# Altium footprint library WE-SHC.PcbLib: 139 footprints (part 2 of 10)
Each footprint in its own frame and in the unit in brackets; x right, y up, seen from the top. Pads: shape width x height; smd on the part's side, far side on the other; paste and mask are expansions set on the pad; w line width, h text height; cw(c..) or ccw(c..) is an arc to the next point about the centre after c.
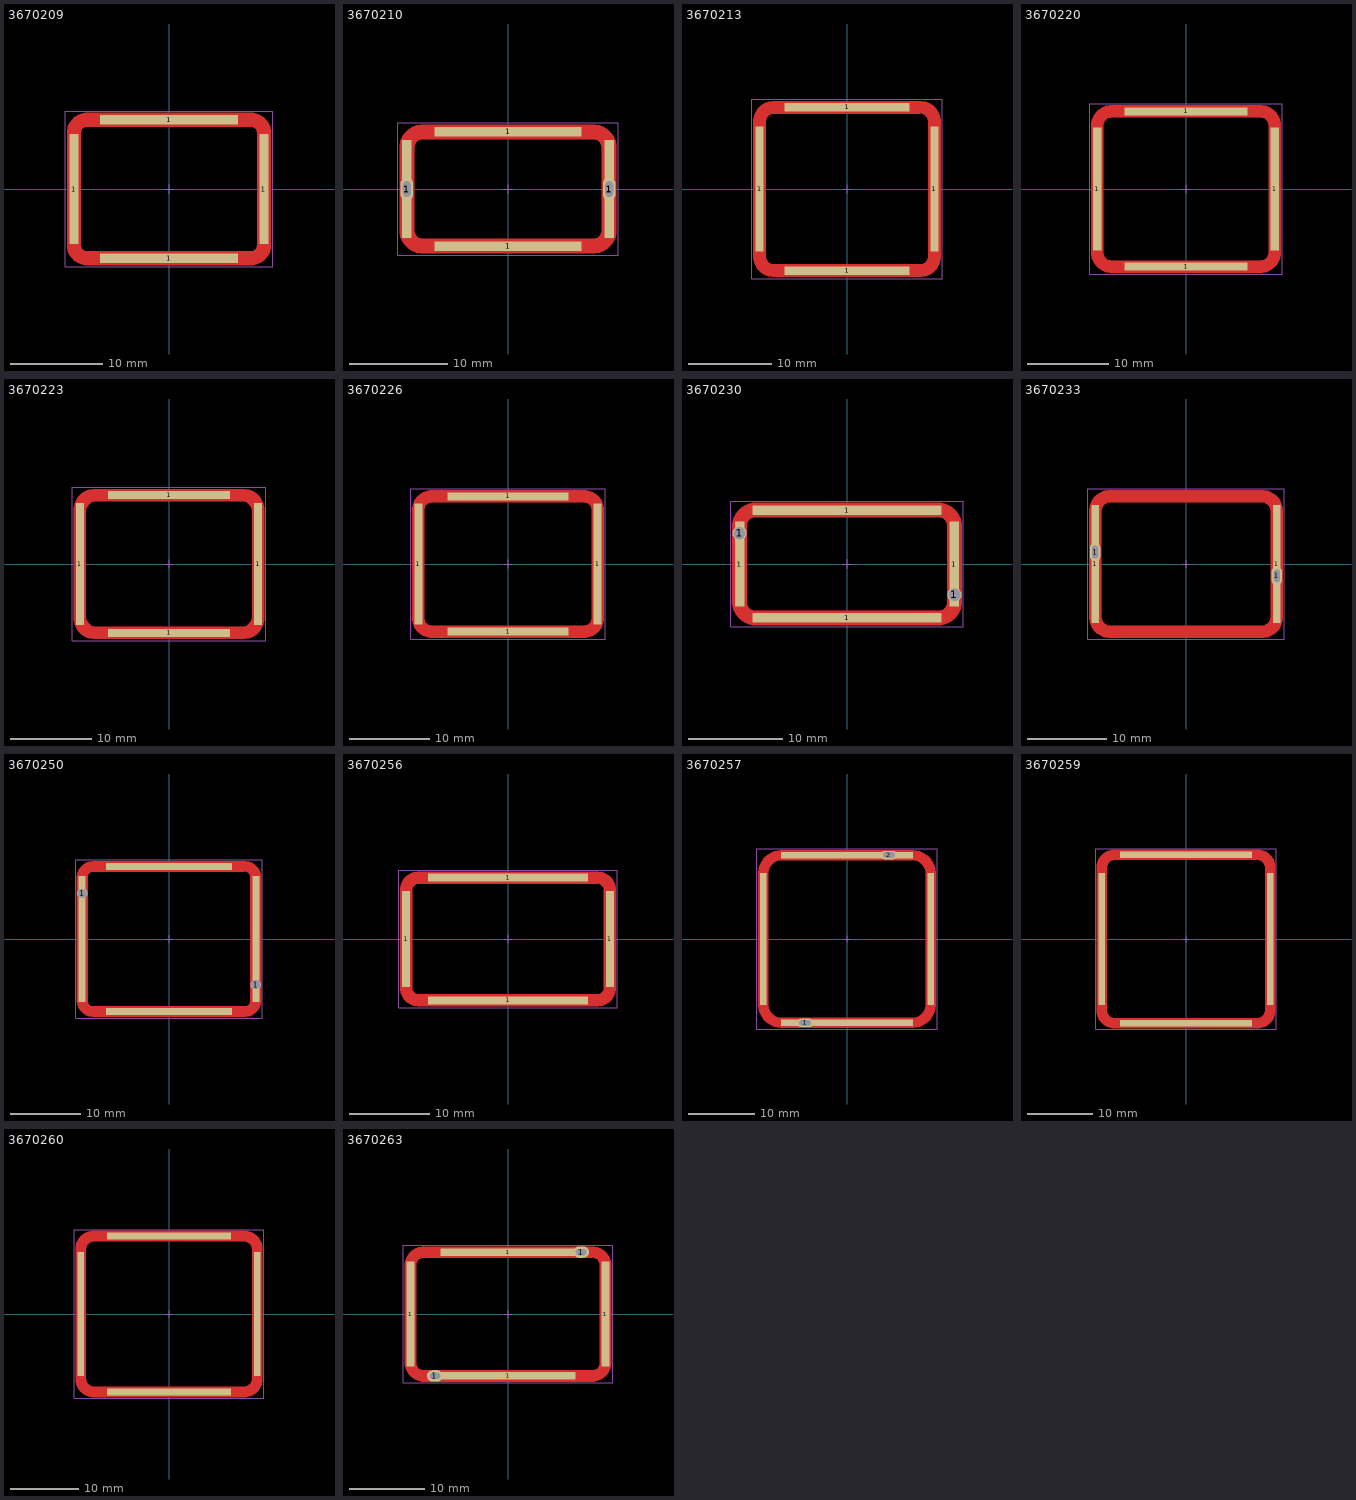
[diagram p1: the footprints below, top view; thin cyan lines are the x and y axes]

## 3670209 [mm] "Shielding Cabinet, SMT Frame Seamless, 20.9x15.3x1.7mm"
height 1.7
pads (4):
  rect 1x12 smd paste-2539.97 mask-2222: 1(-10.35,0) 1(10.35,0)
  rect 15x1 smd paste-2539.97 mask-2222: 1(0,-7.55) 1(0,7.55)
Top Layer:
  region: -11.1,-1 -11.1,6.15 -11.1,6.362 -11.017,6.777 -10.855,7.168 -10.62,7.521 -10.321,7.82 -9.968,8.055 -9.577,8.217 -9.162,8.3 -8.95,8.3 8.95,8.3 9.162,8.3 9.577,8.217 9.968,8.055 10.321,7.82 10.62,7.521 10.855,7.168 11.017,6.777 11.1,6.362 11.1,6.15 11.1,-1 9.6,-1 9.6,6.15 9.588,6.277 9.49,6.511 9.311,6.69 9.077,6.788 8.95,6.8 -8.95,6.8 -9.077,6.788 -9.311,6.69 -9.49,6.511 -9.588,6.277 -9.6,6.15 -9.6,-1
  region: -11.1,-0.25 -11.1,-6.15 -11.1,-6.362 -11.017,-6.777 -10.855,-7.168 -10.62,-7.521 -10.321,-7.82 -9.968,-8.055 -9.577,-8.217 -9.162,-8.3 -8.95,-8.3 8.95,-8.3 9.162,-8.3 9.577,-8.217 9.968,-8.055 10.321,-7.82 10.62,-7.521 10.855,-7.168 11.017,-6.777 11.1,-6.362 11.1,-6.15 11.1,-0.25 9.6,-0.25 9.6,-6.15 9.588,-6.277 9.49,-6.511 9.311,-6.69 9.077,-6.788 8.95,-6.8 -8.95,-6.8 -9.077,-6.788 -9.311,-6.69 -9.49,-6.511 -9.588,-6.277 -9.6,-6.15 -9.6,-0.25
Top Paste:
  region: -11.1,-0.25 -11.1,-6.15 -11.1,-6.362 -11.017,-6.777 -10.855,-7.168 -10.62,-7.521 -10.321,-7.82 -9.968,-8.055 -9.577,-8.217 -9.162,-8.3 -8.95,-8.3 8.95,-8.3 9.162,-8.3 9.577,-8.217 9.968,-8.055 10.321,-7.82 10.62,-7.521 10.855,-7.168 11.017,-6.777 11.1,-6.362 11.1,-6.15 11.1,-0.25 9.6,-0.25 9.6,-6.15 9.588,-6.277 9.49,-6.511 9.311,-6.69 9.077,-6.788 8.95,-6.8 -8.95,-6.8 -9.077,-6.788 -9.311,-6.69 -9.49,-6.511 -9.588,-6.277 -9.6,-6.15 -9.6,-0.25
  region: -11.1,0.25 -11.1,6.15 -11.1,6.362 -11.017,6.777 -10.855,7.168 -10.62,7.521 -10.321,7.82 -9.968,8.055 -9.577,8.217 -9.162,8.3 -8.95,8.3 8.95,8.3 9.162,8.3 9.577,8.217 9.968,8.055 10.321,7.82 10.62,7.521 10.855,7.168 11.017,6.777 11.1,6.362 11.1,6.15 11.1,0.25 9.6,0.25 9.6,6.15 9.588,6.277 9.49,6.511 9.311,6.69 9.077,6.788 8.95,6.8 -8.95,6.8 -9.077,6.788 -9.311,6.69 -9.49,6.511 -9.588,6.277 -9.6,6.15 -9.6,0.25
Assembly Notes:
  text "recommended tin paste thickness=0.5mm / customer to define the final stencil gap" at -5.6,-9.85 h0.4
Top Component Outline:
  lines w0.1: -10.45,-6.15 ccw(c-8.95,-6.15) -8.95,-7.65 8.95,-7.65 ccw(c8.95,-6.15) 10.45,-6.15 10.45,6.15 ccw(c8.95,6.15) 8.95,7.65 -8.95,7.65 ccw(c-8.95,6.15) -10.45,6.15 -10.45,-6.15
Top 3D Body:
  lines w0.1: -10.45,-6.15 ccw(c-8.95,-6.15) -8.95,-7.65 8.95,-7.65 ccw(c8.95,-6.15) 10.45,-6.15 10.45,6.15 ccw(c8.95,6.15) 8.95,7.65 -8.95,7.65 ccw(c-8.95,6.15) -10.45,6.15 -10.45,-6.15
Top Courtyard:
  lines w0.05: -11.3,-8.5 11.3,-8.5 11.3,8.5 -11.3,8.5 -11.3,-8.5
Top Component Center:
  lines w0.05: -0.5,0 0.5,0 ; 0,-0.5 0,0.5
Top Designator (Mech19):
  text ".Designator" at -7.498,-0.5 h1.5
3D body "3670209.stp": height 1.7, standoff 0, extent -10.45,-7.65 10.45,7.65

## 3670210 [mm] "Shielding Cabinet, SMT Frame Seamless, 21x12x5mm"
height 5
pads (6):
  rect 1x10 smd paste-2539.97 mask-2222: 1(-10.35,0) 1(10.35,0)
  oval 1.3x2.4 hole 0.8 slot 1.6 at 90 deg: 1(-10.35,0) 1(10.35,0)
  rect 15x1 smd paste-2539.97 mask-2222: 1(0,-5.85) 1(0,5.85)
Top Layer:
  region: 11.1,-4.2 11.1,4.2 11.1,4.436 11.008,4.9 10.827,5.337 10.564,5.73 10.23,6.064 9.837,6.327 9.4,6.508 8.936,6.6 8.7,6.6 0.25,6.6 0.25,5.1 8.7,5.1 8.788,5.096 8.961,5.061 9.124,4.994 9.271,4.896 9.396,4.771 9.494,4.624 9.561,4.461 9.596,4.288 9.6,4.2 9.6,-4.2 9.596,-4.288 9.561,-4.461 9.494,-4.624 9.396,-4.771 9.271,-4.896 9.124,-4.994 8.961,-5.061 8.788,-5.096 8.7,-5.1 0.25,-5.1 0.25,-6.6 8.7,-6.6 8.936,-6.6 9.4,-6.508 9.837,-6.327 10.23,-6.064 10.564,-5.73 10.827,-5.337 11.008,-4.9 11.1,-4.436
  region: -11.1,-4.2 -11.1,4.2 -11.1,4.436 -11.008,4.9 -10.827,5.337 -10.564,5.73 -10.23,6.064 -9.837,6.327 -9.4,6.508 -8.936,6.6 -8.7,6.6 1,6.6 1,5.1 -8.7,5.1 -8.788,5.096 -8.961,5.061 -9.124,4.994 -9.271,4.896 -9.396,4.771 -9.494,4.624 -9.561,4.461 -9.596,4.288 -9.6,4.2 -9.6,-4.2 -9.596,-4.288 -9.561,-4.461 -9.494,-4.624 -9.396,-4.771 -9.271,-4.896 -9.124,-4.994 -8.961,-5.061 -8.788,-5.096 -8.7,-5.1 1,-5.1 1,-6.6 -8.7,-6.6 -8.936,-6.6 -9.4,-6.508 -9.837,-6.327 -10.23,-6.064 -10.564,-5.73 -10.827,-5.337 -11.008,-4.9 -11.1,-4.436
Top Paste:
  region: -11.1,-4.2 -11.1,4.2 -11.1,4.436 -11.008,4.9 -10.827,5.337 -10.564,5.73 -10.23,6.064 -9.837,6.327 -9.4,6.508 -8.936,6.6 -8.7,6.6 -0.25,6.6 -0.25,5.1 -8.7,5.1 -8.788,5.096 -8.961,5.061 -9.124,4.994 -9.271,4.896 -9.396,4.771 -9.494,4.624 -9.561,4.461 -9.596,4.288 -9.6,4.2 -9.6,-4.2 -9.596,-4.288 -9.561,-4.461 -9.494,-4.624 -9.396,-4.771 -9.271,-4.896 -9.124,-4.994 -8.961,-5.061 -8.788,-5.096 -8.7,-5.1 -0.25,-5.1 -0.25,-6.6 -8.7,-6.6 -8.936,-6.6 -9.4,-6.508 -9.837,-6.327 -10.23,-6.064 -10.564,-5.73 -10.827,-5.337 -11.008,-4.9 -11.1,-4.436
  region: 11.1,-4.2 11.1,4.2 11.1,4.436 11.008,4.9 10.827,5.337 10.564,5.73 10.23,6.064 9.837,6.327 9.4,6.508 8.936,6.6 8.7,6.6 0.25,6.6 0.25,5.1 8.7,5.1 8.788,5.096 8.961,5.061 9.124,4.994 9.271,4.896 9.396,4.771 9.494,4.624 9.561,4.461 9.596,4.288 9.6,4.2 9.6,-4.2 9.596,-4.288 9.561,-4.461 9.494,-4.624 9.396,-4.771 9.271,-4.896 9.124,-4.994 8.961,-5.061 8.788,-5.096 8.7,-5.1 0.25,-5.1 0.25,-6.6 8.7,-6.6 8.936,-6.6 9.4,-6.508 9.837,-6.327 10.23,-6.064 10.564,-5.73 10.827,-5.337 11.008,-4.9 11.1,-4.436
Assembly Notes:
  text "recommended tin paste thickness=0.5mm / customer to define the final stencil gap" at -5.6,-8.2 h0.4
Top Component Outline:
  lines w0.1: -10.5,-4.25 ccw(c-8.75,-4.25) -8.75,-6 8.75,-6 ccw(c8.75,-4.25) 10.5,-4.25 10.5,4.25 ccw(c8.75,4.25) 8.75,6 -8.75,6 ccw(c-8.75,4.25) -10.5,4.25 -10.5,-4.25
Top 3D Body:
  lines w0.1: -10.5,-4.25 ccw(c-8.75,-4.25) -8.75,-6 8.75,-6 ccw(c8.75,-4.25) 10.5,-4.25 10.5,4.25 ccw(c8.75,4.25) 8.75,6 -8.75,6 ccw(c-8.75,4.25) -10.5,4.25 -10.5,-4.25
Top Courtyard:
  lines w0.05: -11.3,-6.8 -11.3,6.8 11.3,6.8 11.3,-6.8 -11.3,-6.8
Top Component Center:
  lines w0.05: -0.5,0 0.5,0 ; 0,-0.5 0,0.5
Top Designator (Mech19):
  text ".Designator" at -7.498,-0.5 h1.5
3D body "3670210.stp": height 5, standoff -1, extent -10.5,-6 10.5,6

## 3670213 [mm] "Shielding Cabinet, SMT Frame Seamless, 21.3x19.9x2.9mm"
height 2.9
pads (4):
  rect 1x15 smd paste-2539.97 mask-2222: 1(-10.5,0) 1(10.5,0)
  rect 15x1 smd paste-2539.97 mask-2222: 1(0,-9.8) 1(0,9.8)
Top Layer:
  region: -11.25,-0.25 -11.25,-8.05 -11.25,-8.296 -11.154,-8.779 -10.965,-9.234 -10.692,-9.644 -10.344,-9.992 -9.934,-10.265 -9.479,-10.454 -8.996,-10.55 -8.75,-10.55 8.75,-10.55 8.996,-10.55 9.479,-10.454 9.934,-10.265 10.344,-9.992 10.692,-9.644 10.965,-9.234 11.154,-8.779 11.25,-8.296 11.25,-8.05 11.25,-0.25 9.75,-0.25 9.75,-8.05 9.745,-8.148 9.707,-8.34 9.632,-8.521 9.523,-8.684 9.384,-8.823 9.221,-8.932 9.04,-9.007 8.848,-9.045 8.75,-9.05 -8.75,-9.05 -8.848,-9.045 -9.04,-9.007 -9.221,-8.932 -9.384,-8.823 -9.523,-8.684 -9.632,-8.521 -9.707,-8.34 -9.745,-8.148 -9.75,-8.05 -9.75,-0.25
  region: -11.25,-1 -11.25,8.05 -11.25,8.296 -11.154,8.779 -10.965,9.234 -10.692,9.644 -10.344,9.992 -9.934,10.265 -9.479,10.454 -8.996,10.55 -8.75,10.55 8.75,10.55 8.996,10.55 9.479,10.454 9.934,10.265 10.344,9.992 10.692,9.644 10.965,9.234 11.154,8.779 11.25,8.296 11.25,8.05 11.25,-1 9.75,-1 9.75,8.05 9.745,8.148 9.707,8.34 9.632,8.521 9.523,8.684 9.384,8.823 9.221,8.932 9.04,9.007 8.848,9.045 8.75,9.05 -8.75,9.05 -8.848,9.045 -9.04,9.007 -9.221,8.932 -9.384,8.823 -9.523,8.684 -9.632,8.521 -9.707,8.34 -9.745,8.148 -9.75,8.05 -9.75,-1
Top Paste:
  region: -11.25,0.25 -11.25,8.05 -11.25,8.296 -11.154,8.779 -10.965,9.234 -10.692,9.644 -10.344,9.992 -9.934,10.265 -9.479,10.454 -8.996,10.55 -8.75,10.55 8.75,10.55 8.996,10.55 9.479,10.454 9.934,10.265 10.344,9.992 10.692,9.644 10.965,9.234 11.154,8.779 11.25,8.296 11.25,8.05 11.25,0.25 9.75,0.25 9.75,8.05 9.745,8.148 9.707,8.34 9.632,8.521 9.523,8.684 9.384,8.823 9.221,8.932 9.04,9.007 8.848,9.045 8.75,9.05 -8.75,9.05 -8.848,9.045 -9.04,9.007 -9.221,8.932 -9.384,8.823 -9.523,8.684 -9.632,8.521 -9.707,8.34 -9.745,8.148 -9.75,8.05 -9.75,0.25
  region: -11.25,-0.25 -11.25,-8.05 -11.25,-8.296 -11.154,-8.779 -10.965,-9.234 -10.692,-9.644 -10.344,-9.992 -9.934,-10.265 -9.479,-10.454 -8.996,-10.55 -8.75,-10.55 8.75,-10.55 8.996,-10.55 9.479,-10.454 9.934,-10.265 10.344,-9.992 10.692,-9.644 10.965,-9.234 11.154,-8.779 11.25,-8.296 11.25,-8.05 11.25,-0.25 9.75,-0.25 9.75,-8.05 9.745,-8.148 9.707,-8.34 9.632,-8.521 9.523,-8.684 9.384,-8.823 9.221,-8.932 9.04,-9.007 8.848,-9.045 8.75,-9.05 -8.75,-9.05 -8.848,-9.045 -9.04,-9.007 -9.221,-8.932 -9.384,-8.823 -9.523,-8.684 -9.632,-8.521 -9.707,-8.34 -9.745,-8.148 -9.75,-8.05 -9.75,-0.25
Assembly Notes:
  text "recommended tin paste thickness=0.5mm / customer to define the final stencil gap" at -5.1,-12.2 h0.4
Top Component Outline:
  lines w0.1: -10.65,-7.95 ccw(c-8.65,-7.95) -8.65,-9.95 8.65,-9.95 ccw(c8.65,-7.95) 10.65,-7.95 10.65,7.95 ccw(c8.65,7.95) 8.65,9.95 -8.65,9.95 ccw(c-8.65,7.95) -10.65,7.95 -10.65,-7.95
Top 3D Body:
  lines w0.1: -10.65,-7.95 ccw(c-8.65,-7.95) -8.65,-9.95 8.65,-9.95 ccw(c8.65,-7.95) 10.65,-7.95 10.65,7.95 ccw(c8.65,7.95) 8.65,9.95 -8.65,9.95 ccw(c-8.65,7.95) -10.65,7.95 -10.65,-7.95
Top Courtyard:
  lines w0.05: -11.45,-10.75 -11.45,10.75 11.45,10.75 11.45,-10.75 -11.45,-10.75
Top Component Center:
  lines w0.05: -0.5,0 0.5,0 ; 0,-0.5 0,0.5
Top Designator (Mech19):
  text ".Designator" at -7.498,-0.5 h1.5
3D body "3670213.stp": height 2.9, standoff 0, extent -10.65,-9.95 10.65,9.95

## 3670220 [mm] "Shielding Cabinet, SMT Frame Seamless, 22x19.3x3.3mm"
height 3.3
pads (4):
  rect 1x15 smd paste-2539.97 mask-2222: 1(-10.85,0) 1(10.85,0)
  rect 15x1 smd paste-2539.97 mask-2222: 1(0,-9.5) 1(0,9.5)
Top Layer:
  region: -11.6,-1 -11.6,7.75 -11.6,7.996 -11.504,8.479 -11.315,8.934 -11.042,9.344 -10.694,9.692 -10.284,9.965 -9.829,10.154 -9.346,10.25 -9.1,10.25 9.1,10.25 9.346,10.25 9.829,10.154 10.284,9.965 10.694,9.692 11.042,9.344 11.315,8.934 11.504,8.479 11.6,7.996 11.6,7.75 11.6,-1 10.1,-1 10.1,7.75 10.095,7.848 10.057,8.04 9.982,8.221 9.873,8.384 9.734,8.523 9.571,8.632 9.39,8.707 9.198,8.745 9.1,8.75 -9.1,8.75 -9.198,8.745 -9.39,8.707 -9.571,8.632 -9.734,8.523 -9.873,8.384 -9.982,8.221 -10.057,8.04 -10.095,7.848 -10.1,7.75 -10.1,-1
  region: -11.6,-0.25 -11.6,-7.75 -11.6,-7.996 -11.504,-8.479 -11.315,-8.934 -11.042,-9.344 -10.694,-9.692 -10.284,-9.965 -9.829,-10.154 -9.346,-10.25 -9.1,-10.25 9.1,-10.25 9.346,-10.25 9.829,-10.154 10.284,-9.965 10.694,-9.692 11.042,-9.344 11.315,-8.934 11.504,-8.479 11.6,-7.996 11.6,-7.75 11.6,-0.25 10.1,-0.25 10.1,-7.75 10.095,-7.848 10.057,-8.04 9.982,-8.221 9.873,-8.384 9.734,-8.523 9.571,-8.632 9.39,-8.707 9.198,-8.745 9.1,-8.75 -9.1,-8.75 -9.198,-8.745 -9.39,-8.707 -9.571,-8.632 -9.734,-8.523 -9.873,-8.384 -9.982,-8.221 -10.057,-8.04 -10.095,-7.848 -10.1,-7.75 -10.1,-0.25
Top Paste:
  region: -11.6,-0.25 -11.6,-7.75 -11.6,-7.996 -11.504,-8.479 -11.315,-8.934 -11.042,-9.344 -10.694,-9.692 -10.284,-9.965 -9.829,-10.154 -9.346,-10.25 -9.1,-10.25 9.1,-10.25 9.346,-10.25 9.829,-10.154 10.284,-9.965 10.694,-9.692 11.042,-9.344 11.315,-8.934 11.504,-8.479 11.6,-7.996 11.6,-7.75 11.6,-0.25 10.1,-0.25 10.1,-7.75 10.095,-7.848 10.057,-8.04 9.982,-8.221 9.873,-8.384 9.734,-8.523 9.571,-8.632 9.39,-8.707 9.198,-8.745 9.1,-8.75 -9.1,-8.75 -9.198,-8.745 -9.39,-8.707 -9.571,-8.632 -9.734,-8.523 -9.873,-8.384 -9.982,-8.221 -10.057,-8.04 -10.095,-7.848 -10.1,-7.75 -10.1,-0.25
  region: -11.6,0.25 -11.6,7.75 -11.6,7.996 -11.504,8.479 -11.315,8.934 -11.042,9.344 -10.694,9.692 -10.284,9.965 -9.829,10.154 -9.346,10.25 -9.1,10.25 9.1,10.25 9.346,10.25 9.829,10.154 10.284,9.965 10.694,9.692 11.042,9.344 11.315,8.934 11.504,8.479 11.6,7.996 11.6,7.75 11.6,0.25 10.1,0.25 10.1,7.75 10.095,7.848 10.057,8.04 9.982,8.221 9.873,8.384 9.734,8.523 9.571,8.632 9.39,8.707 9.198,8.745 9.1,8.75 -9.1,8.75 -9.198,8.745 -9.39,8.707 -9.571,8.632 -9.734,8.523 -9.873,8.384 -9.982,8.221 -10.057,8.04 -10.095,7.848 -10.1,7.75 -10.1,0.25
Assembly Notes:
  text "recommended tin paste thickness=0.5mm / customer to define the final stencil gap" at -6,-11.85 h0.4
Top Component Outline:
  lines w0.1: -11,-7.65 ccw(c-9,-7.65) -9,-9.65 9,-9.65 ccw(c9,-7.65) 11,-7.65 11,7.65 ccw(c9,7.65) 9,9.65 -9,9.65 ccw(c-9,7.65) -11,7.65 -11,-7.65
Top 3D Body:
  lines w0.1: -11,-7.65 ccw(c-9,-7.65) -9,-9.65 9,-9.65 ccw(c9,-7.65) 11,-7.65 11,7.65 ccw(c9,7.65) 9,9.65 -9,9.65 ccw(c-9,7.65) -11,7.65 -11,-7.65
Top Courtyard:
  lines w0.05: -11.8,-10.45 11.8,-10.45 11.8,10.45 -11.8,10.45 -11.8,-10.45
Top Component Center:
  lines w0.05: -0.5,0 0.5,0 ; 0,-0.5 0,0.5
Top Designator (Mech19):
  text ".Designator" at -7.498,-0.5 h1.5
3D body "3670220.stp": height 3.3, standoff 0, extent -11,-9.65 11,9.65

## 3670223 [mm] "Shielding Cabinet, SMT Frame Seamless, 22.3x17.3x5mm"
height 5
pads (4):
  rect 1x15 smd paste-2539.97 mask-2222: 1(-11,0) 1(11,0)
  rect 15x1 smd paste-2539.97 mask-2222: 1(0,-8.5) 1(0,8.5)
Top Layer:
  region: -11.75,-0.25 -11.75,-6.65 -11.75,-6.906 -11.65,-7.408 -11.454,-7.882 -11.17,-8.307 -10.807,-8.67 -10.382,-8.954 -9.908,-9.15 -9.406,-9.25 -9.15,-9.25 9.15,-9.25 9.406,-9.25 9.908,-9.15 10.382,-8.954 10.807,-8.67 11.17,-8.307 11.454,-7.882 11.65,-7.408 11.75,-6.906 11.75,-6.65 11.75,-0.25 10.25,-0.25 10.25,-6.45 10.244,-6.577 10.194,-6.827 10.096,-7.063 9.955,-7.275 9.775,-7.455 9.563,-7.596 9.327,-7.694 9.077,-7.744 8.95,-7.75 -8.95,-7.75 -9.077,-7.744 -9.327,-7.694 -9.563,-7.596 -9.775,-7.455 -9.955,-7.275 -10.096,-7.063 -10.194,-6.827 -10.244,-6.577 -10.25,-6.45 -10.25,-0.25
  region: -11.75,-1.3 -11.75,6.65 -11.75,6.906 -11.65,7.408 -11.454,7.882 -11.17,8.307 -10.807,8.67 -10.382,8.954 -9.908,9.15 -9.406,9.25 -9.15,9.25 9.15,9.25 9.406,9.25 9.908,9.15 10.382,8.954 10.807,8.67 11.17,8.307 11.454,7.882 11.65,7.408 11.75,6.906 11.75,6.65 11.75,-1.3 10.25,-1.3 10.25,6.45 10.244,6.577 10.194,6.827 10.096,7.063 9.955,7.275 9.775,7.455 9.563,7.596 9.327,7.694 9.077,7.744 8.95,7.75 -8.95,7.75 -9.077,7.744 -9.327,7.694 -9.563,7.596 -9.775,7.455 -9.955,7.275 -10.096,7.063 -10.194,6.827 -10.244,6.577 -10.25,6.45 -10.25,-1.3
Top Paste:
  region: -11.75,0.25 -11.75,6.65 -11.75,6.906 -11.65,7.408 -11.454,7.882 -11.17,8.307 -10.807,8.67 -10.382,8.954 -9.908,9.15 -9.406,9.25 -9.15,9.25 9.15,9.25 9.406,9.25 9.908,9.15 10.382,8.954 10.807,8.67 11.17,8.307 11.454,7.882 11.65,7.408 11.75,6.906 11.75,6.65 11.75,0.25 10.25,0.25 10.25,6.45 10.244,6.577 10.194,6.827 10.096,7.063 9.955,7.275 9.775,7.455 9.563,7.596 9.327,7.694 9.077,7.744 8.95,7.75 -8.95,7.75 -9.077,7.744 -9.327,7.694 -9.563,7.596 -9.775,7.455 -9.955,7.275 -10.096,7.063 -10.194,6.827 -10.244,6.577 -10.25,6.45 -10.25,0.25
  region: -11.75,-0.25 -11.75,-6.65 -11.75,-6.906 -11.65,-7.408 -11.454,-7.882 -11.17,-8.307 -10.807,-8.67 -10.382,-8.954 -9.908,-9.15 -9.406,-9.25 -9.15,-9.25 9.15,-9.25 9.406,-9.25 9.908,-9.15 10.382,-8.954 10.807,-8.67 11.17,-8.307 11.454,-7.882 11.65,-7.408 11.75,-6.906 11.75,-6.65 11.75,-0.25 10.25,-0.25 10.25,-6.45 10.244,-6.577 10.194,-6.827 10.096,-7.063 9.955,-7.275 9.775,-7.455 9.563,-7.596 9.327,-7.694 9.077,-7.744 8.95,-7.75 -8.95,-7.75 -9.077,-7.744 -9.327,-7.694 -9.563,-7.596 -9.775,-7.455 -9.955,-7.275 -10.096,-7.063 -10.194,-6.827 -10.244,-6.577 -10.25,-6.45 -10.25,-0.25
Assembly Notes:
  text "recommended tin paste thickness=0.5mm / customer to define the final stencil gap" at -5.45,-10.8 h0.4
Top Component Outline:
  lines w0.1: -11.15,-6.65 ccw(c-9.15,-6.65) -9.15,-8.65 9.15,-8.65 ccw(c9.15,-6.65) 11.15,-6.65 11.15,6.65 ccw(c9.15,6.65) 9.15,8.65 -9.15,8.65 ccw(c-9.15,6.65) -11.15,6.65 -11.15,-6.65
Top 3D Body:
  lines w0.1: -11.15,-6.65 ccw(c-9.15,-6.65) -9.15,-8.65 9.15,-8.65 ccw(c9.15,-6.65) 11.15,-6.65 11.15,6.65 ccw(c9.15,6.65) 9.15,8.65 -9.15,8.65 ccw(c-9.15,6.65) -11.15,6.65 -11.15,-6.65
Top Courtyard:
  lines w0.05: -11.95,-9.45 -11.95,9.45 11.95,9.45 11.95,-9.45 -11.95,-9.45
Top Component Center:
  lines w0.05: -0.5,0 0.5,0 ; 0,-0.5 0,0.5
Top Designator (Mech19):
  text ".Designator" at -7.498,-0.5 h1.5
3D body "3670223.stp": height 5, standoff 0, extent -11.15,-8.65 11.15,8.65

## 3670226 [mm] "Shielding Cabinet, SMT Frame Seamless, 22.6x17.1x2mm"
height 2
pads (4):
  rect 1x15 smd paste-2539.97 mask-2222: 1(-11.15,0) 1(11.15,0)
  rect 15x1 smd paste-2539.97 mask-2222: 1(0,-8.4) 1(0,8.4)
Top Layer:
  region: -11.9,-1 -11.9,6.75 -11.9,6.986 -11.808,7.45 -11.627,7.887 -11.364,8.28 -11.03,8.614 -10.637,8.877 -10.2,9.058 -9.736,9.15 -9.5,9.15 9.5,9.15 9.736,9.15 10.2,9.058 10.637,8.877 11.03,8.614 11.364,8.28 11.627,7.887 11.808,7.45 11.9,6.986 11.9,6.75 11.9,-1 10.4,-1 10.4,6.75 10.396,6.838 10.361,7.011 10.294,7.174 10.196,7.321 10.071,7.446 9.924,7.544 9.761,7.611 9.588,7.646 9.5,7.65 -9.5,7.65 -9.588,7.646 -9.761,7.611 -9.924,7.544 -10.071,7.446 -10.196,7.321 -10.294,7.174 -10.361,7.011 -10.396,6.838 -10.4,6.75 -10.4,-1
  region: -11.9,-0.25 -11.9,-6.75 -11.9,-6.986 -11.808,-7.45 -11.627,-7.887 -11.364,-8.28 -11.03,-8.614 -10.637,-8.877 -10.2,-9.058 -9.736,-9.15 -9.5,-9.15 9.5,-9.15 9.736,-9.15 10.2,-9.058 10.637,-8.877 11.03,-8.614 11.364,-8.28 11.627,-7.887 11.808,-7.45 11.9,-6.986 11.9,-6.75 11.9,-0.25 10.4,-0.25 10.4,-6.75 10.396,-6.838 10.361,-7.011 10.294,-7.174 10.196,-7.321 10.071,-7.446 9.924,-7.544 9.761,-7.611 9.588,-7.646 9.5,-7.65 -9.5,-7.65 -9.588,-7.646 -9.761,-7.611 -9.924,-7.544 -10.071,-7.446 -10.196,-7.321 -10.294,-7.174 -10.361,-7.011 -10.396,-6.838 -10.4,-6.75 -10.4,-0.25
Top Paste:
  region: -11.9,-0.25 -11.9,-6.75 -11.9,-6.986 -11.808,-7.45 -11.627,-7.887 -11.364,-8.28 -11.03,-8.614 -10.637,-8.877 -10.2,-9.058 -9.736,-9.15 -9.5,-9.15 9.5,-9.15 9.736,-9.15 10.2,-9.058 10.637,-8.877 11.03,-8.614 11.364,-8.28 11.627,-7.887 11.808,-7.45 11.9,-6.986 11.9,-6.75 11.9,-0.25 10.4,-0.25 10.4,-6.75 10.396,-6.838 10.361,-7.011 10.294,-7.174 10.196,-7.321 10.071,-7.446 9.924,-7.544 9.761,-7.611 9.588,-7.646 9.5,-7.65 -9.5,-7.65 -9.588,-7.646 -9.761,-7.611 -9.924,-7.544 -10.071,-7.446 -10.196,-7.321 -10.294,-7.174 -10.361,-7.011 -10.396,-6.838 -10.4,-6.75 -10.4,-0.25
  region: -11.9,0.25 -11.9,6.75 -11.9,6.986 -11.808,7.45 -11.627,7.887 -11.364,8.28 -11.03,8.614 -10.637,8.877 -10.2,9.058 -9.736,9.15 -9.5,9.15 9.5,9.15 9.736,9.15 10.2,9.058 10.637,8.877 11.03,8.614 11.364,8.28 11.627,7.887 11.808,7.45 11.9,6.986 11.9,6.75 11.9,0.25 10.4,0.25 10.4,6.75 10.396,6.838 10.361,7.011 10.294,7.174 10.196,7.321 10.071,7.446 9.924,7.544 9.761,7.611 9.588,7.646 9.5,7.65 -9.5,7.65 -9.588,7.646 -9.761,7.611 -9.924,7.544 -10.071,7.446 -10.196,7.321 -10.294,7.174 -10.361,7.011 -10.396,6.838 -10.4,6.75 -10.4,0.25
Assembly Notes:
  text "recommended tin paste thickness=0.5mm / customer to define the final stencil gap" at -5.45,-10.8 h0.4
Top Component Outline:
  lines w0.1: -11.3,-6.8 ccw(c-9.55,-6.8) -9.55,-8.55 9.55,-8.55 ccw(c9.55,-6.8) 11.3,-6.8 11.3,6.8 ccw(c9.55,6.8) 9.55,8.55 -9.55,8.55 ccw(c-9.55,6.8) -11.3,6.8 -11.3,-6.8
Top 3D Body:
  lines w0.1: -11.3,-6.8 ccw(c-9.55,-6.8) -9.55,-8.55 9.55,-8.55 ccw(c9.55,-6.8) 11.3,-6.8 11.3,6.8 ccw(c9.55,6.8) 9.55,8.55 -9.55,8.55 ccw(c-9.55,6.8) -11.3,6.8 -11.3,-6.8
Top Courtyard:
  lines w0.05: -12.1,-9.35 -12.1,9.35 12.1,9.35 12.1,-9.35 -12.1,-9.35
Top Component Center:
  lines w0.05: -0.5,0 0.5,0 ; 0,-0.5 0,0.5
Top Designator (Mech19):
  text ".Designator" at -7.498,-0.5 h1.5
3D body "3670226.stp": height 2, standoff 0, extent -11.3,-8.55 11.3,8.55

## 3670230 [mm] "Shielding Cabinet, SMT Frame Seamless, 23x11.7x5mm"
height 5
pads (6):
  rect 1x9 smd paste-2539.97 mask-2222: 1(-11.35,0) 1(11.35,0)
  round 1.5 hole 1.3: 1(-11.35,3.25) 1(11.35,-3.25)
  rect 20x1 smd paste-2539.97 mask-2222: 1(0,-5.7) 1(0,5.7)
Top Layer:
  region: -12.1,-4.05 -12.1,4.05 -12.1,4.286 -12.008,4.75 -11.827,5.187 -11.564,5.58 -11.23,5.914 -10.837,6.177 -10.4,6.358 -9.936,6.45 -9.7,6.45 1,6.45 1,4.95 -9.7,4.95 -9.788,4.946 -9.961,4.911 -10.124,4.844 -10.271,4.746 -10.396,4.621 -10.494,4.474 -10.561,4.311 -10.596,4.138 -10.6,4.05 -10.6,-4.05 -10.596,-4.138 -10.561,-4.311 -10.494,-4.474 -10.396,-4.621 -10.271,-4.746 -10.124,-4.844 -9.961,-4.911 -9.788,-4.946 -9.7,-4.95 1,-4.95 1,-6.45 -9.7,-6.45 -9.936,-6.45 -10.4,-6.358 -10.837,-6.177 -11.23,-5.914 -11.564,-5.58 -11.827,-5.187 -12.008,-4.75 -12.1,-4.286
  region: 12.1,-4.05 12.1,4.05 12.1,4.286 12.008,4.75 11.827,5.187 11.564,5.58 11.23,5.914 10.837,6.177 10.4,6.358 9.936,6.45 9.7,6.45 0.25,6.45 0.25,4.95 9.7,4.95 9.788,4.946 9.961,4.911 10.124,4.844 10.271,4.746 10.396,4.621 10.494,4.474 10.561,4.311 10.596,4.138 10.6,4.05 10.6,-4.05 10.596,-4.138 10.561,-4.311 10.494,-4.474 10.396,-4.621 10.271,-4.746 10.124,-4.844 9.961,-4.911 9.788,-4.946 9.7,-4.95 0.25,-4.95 0.25,-6.45 9.7,-6.45 9.936,-6.45 10.4,-6.358 10.837,-6.177 11.23,-5.914 11.564,-5.58 11.827,-5.187 12.008,-4.75 12.1,-4.286
Top Paste:
  region: 12.1,-4.05 12.1,4.05 12.1,4.286 12.008,4.75 11.827,5.187 11.564,5.58 11.23,5.914 10.837,6.177 10.4,6.358 9.936,6.45 9.7,6.45 0.25,6.45 0.25,4.95 9.7,4.95 9.788,4.946 9.961,4.911 10.124,4.844 10.271,4.746 10.396,4.621 10.494,4.474 10.561,4.311 10.596,4.138 10.6,4.05 10.6,-4.05 10.596,-4.138 10.561,-4.311 10.494,-4.474 10.396,-4.621 10.271,-4.746 10.124,-4.844 9.961,-4.911 9.788,-4.946 9.7,-4.95 0.25,-4.95 0.25,-6.45 9.7,-6.45 9.936,-6.45 10.4,-6.358 10.837,-6.177 11.23,-5.914 11.564,-5.58 11.827,-5.187 12.008,-4.75 12.1,-4.286
  region: -12.1,-4.05 -12.1,4.05 -12.1,4.286 -12.008,4.75 -11.827,5.187 -11.564,5.58 -11.23,5.914 -10.837,6.177 -10.4,6.358 -9.936,6.45 -9.7,6.45 -0.25,6.45 -0.25,4.95 -9.7,4.95 -9.788,4.946 -9.961,4.911 -10.124,4.844 -10.271,4.746 -10.396,4.621 -10.494,4.474 -10.561,4.311 -10.596,4.138 -10.6,4.05 -10.6,-4.05 -10.596,-4.138 -10.561,-4.311 -10.494,-4.474 -10.396,-4.621 -10.271,-4.746 -10.124,-4.844 -9.961,-4.911 -9.788,-4.946 -9.7,-4.95 -0.25,-4.95 -0.25,-6.45 -9.7,-6.45 -9.936,-6.45 -10.4,-6.358 -10.837,-6.177 -11.23,-5.914 -11.564,-5.58 -11.827,-5.187 -12.008,-4.75 -12.1,-4.286
Assembly Notes:
  text "recommended tin paste thickness=0.5mm / customer to define the final stencil gap" at -5.7,-8 h0.4
Top Component Outline:
  lines w0.1: -11.5,-4.1 ccw(c-9.75,-4.1) -9.75,-5.85 9.75,-5.85 ccw(c9.75,-4.1) 11.5,-4.1 11.5,4.1 ccw(c9.75,4.1) 9.75,5.85 -9.75,5.85 ccw(c-9.75,4.1) -11.5,4.1 -11.5,-4.1
Top 3D Body:
  lines w0.1: -11.5,-4.1 ccw(c-9.75,-4.1) -9.75,-5.85 9.75,-5.85 ccw(c9.75,-4.1) 11.5,-4.1 11.5,4.1 ccw(c9.75,4.1) 9.75,5.85 -9.75,5.85 ccw(c-9.75,4.1) -11.5,4.1 -11.5,-4.1
Top Courtyard:
  lines w0.05: -12.3,-6.65 -12.3,6.65 12.3,6.65 12.3,-6.65 -12.3,-6.65
Top Component Center:
  lines w0.05: -0.5,0 0.5,0 ; 0,-0.5 0,0.5
Top Designator (Mech19):
  text ".Designator" at -7.498,-0.5 h1.5
3D body "3670230.stp": height 5, standoff -0.6, extent -11.5,-5.85 11.5,5.85

## 3670233 [mm] "Shielding Cabinet, SMT Frame Seamless, 23.3x17.5x5mm"
height 5
pads (4):
  rect 1x15 smd paste-2539.97 mask-2222: 1(-11.5,0) 1(11.5,0)
  oval 1.3x2.4 hole 0.8 slot 1.6 at 90 deg: 1(-11.5,1.5) 1(11.5,-1.5)
Top Layer:
  region: 12.25,-6.75 12.25,6.75 12.25,7.006 12.15,7.508 11.954,7.982 11.67,8.407 11.307,8.77 10.882,9.054 10.408,9.25 9.906,9.35 9.65,9.35 0.25,9.35 0.25,7.85 9.45,7.85 9.577,7.844 9.827,7.794 10.063,7.696 10.275,7.555 10.455,7.375 10.596,7.163 10.694,6.927 10.744,6.677 10.75,6.55 10.75,-6.55 10.744,-6.677 10.694,-6.927 10.596,-7.163 10.455,-7.375 10.275,-7.555 10.063,-7.696 9.827,-7.794 9.577,-7.844 9.45,-7.85 0.25,-7.85 0.25,-9.35 9.65,-9.35 9.906,-9.35 10.408,-9.25 10.882,-9.054 11.307,-8.77 11.67,-8.407 11.954,-7.982 12.15,-7.508 12.25,-7.006
  region: -12.25,-6.75 -12.25,6.75 -12.25,7.006 -12.15,7.508 -11.954,7.982 -11.67,8.407 -11.307,8.77 -10.882,9.054 -10.408,9.25 -9.906,9.35 -9.65,9.35 1,9.35 1,7.85 -9.45,7.85 -9.577,7.844 -9.827,7.794 -10.063,7.696 -10.275,7.555 -10.455,7.375 -10.596,7.163 -10.694,6.927 -10.744,6.677 -10.75,6.55 -10.75,-6.55 -10.744,-6.677 -10.694,-6.927 -10.596,-7.163 -10.455,-7.375 -10.275,-7.555 -10.063,-7.696 -9.827,-7.794 -9.577,-7.844 -9.45,-7.85 1,-7.85 1,-9.35 -9.65,-9.35 -9.906,-9.35 -10.408,-9.25 -10.882,-9.054 -11.307,-8.77 -11.67,-8.407 -11.954,-7.982 -12.15,-7.508 -12.25,-7.006
Top Paste:
  region: -12.25,-6.75 -12.25,6.75 -12.25,7.006 -12.15,7.508 -11.954,7.982 -11.67,8.407 -11.307,8.77 -10.882,9.054 -10.408,9.25 -9.906,9.35 -9.65,9.35 -0.25,9.35 -0.25,7.85 -9.45,7.85 -9.577,7.844 -9.827,7.794 -10.063,7.696 -10.275,7.555 -10.455,7.375 -10.596,7.163 -10.694,6.927 -10.744,6.677 -10.75,6.55 -10.75,-6.55 -10.744,-6.677 -10.694,-6.927 -10.596,-7.163 -10.455,-7.375 -10.275,-7.555 -10.063,-7.696 -9.827,-7.794 -9.577,-7.844 -9.45,-7.85 -0.25,-7.85 -0.25,-9.35 -9.65,-9.35 -9.906,-9.35 -10.408,-9.25 -10.882,-9.054 -11.307,-8.77 -11.67,-8.407 -11.954,-7.982 -12.15,-7.508 -12.25,-7.006
  region: 12.25,-6.75 12.25,6.75 12.25,7.006 12.15,7.508 11.954,7.982 11.67,8.407 11.307,8.77 10.882,9.054 10.408,9.25 9.906,9.35 9.65,9.35 0.25,9.35 0.25,7.85 9.45,7.85 9.577,7.844 9.827,7.794 10.063,7.696 10.275,7.555 10.455,7.375 10.596,7.163 10.694,6.927 10.744,6.677 10.75,6.55 10.75,-6.55 10.744,-6.677 10.694,-6.927 10.596,-7.163 10.455,-7.375 10.275,-7.555 10.063,-7.696 9.827,-7.794 9.577,-7.844 9.45,-7.85 0.25,-7.85 0.25,-9.35 9.65,-9.35 9.906,-9.35 10.408,-9.25 10.882,-9.054 11.307,-8.77 11.67,-8.407 11.954,-7.982 12.15,-7.508 12.25,-7.006
Assembly Notes:
  text "recommended tin paste thickness=0.5mm / customer to define the final stencil gap" at -6,-11 h0.4
Top Component Outline:
  lines w0.1: -11.65,-6.75 ccw(c-9.65,-6.75) -9.65,-8.75 9.65,-8.75 ccw(c9.65,-6.75) 11.65,-6.75 11.65,6.75 ccw(c9.65,6.75) 9.65,8.75 -9.65,8.75 ccw(c-9.65,6.75) -11.65,6.75 -11.65,-6.75
Top 3D Body:
  lines w0.1: -11.65,-6.75 ccw(c-9.65,-6.75) -9.65,-8.75 9.65,-8.75 ccw(c9.65,-6.75) 11.65,-6.75 11.65,6.75 ccw(c9.65,6.75) 9.65,8.75 -9.65,8.75 ccw(c-9.65,6.75) -11.65,6.75 -11.65,-6.75
Top Courtyard:
  lines w0.05: -12.45,-9.55 12.45,-9.55 12.45,9.55 -12.45,9.55 -12.45,-9.55
Top Component Center:
  lines w0.05: -0.5,0 0.5,0 ; 0,-0.5 0,0.5
Top Designator (Mech19):
  text ".Designator" at -7.498,-0.5 h1.5
3D body "3670233.stp": height 3.3, standoff -0.8, extent -11.65,-8.75 11.65,8.75

## 3670250 [mm] "Shielding Cabinet, SMT Frame Seamless, 25x21x4mm"
height 4
pads (6):
  rect 1x18 smd paste-2539.97 mask-2222: 1(-12.35,0) 1(12.35,0)
  round 1.5 hole 1.3: 1(-12.35,6.5) 1(12.35,-6.5)
  rect 18x1 smd paste-2539.97 mask-2222: 1(0,-10.35) 1(0,10.35)
Top Layer:
  region: 11.6,-8.7 11.6,8.7 11.596,8.788 11.561,8.961 11.494,9.124 11.396,9.271 11.271,9.396 11.124,9.494 10.961,9.561 10.788,9.596 10.7,9.6 0.25,9.6 0.25,11.1 10.7,11.1 10.936,11.1 11.4,11.008 11.837,10.827 12.23,10.564 12.564,10.23 12.827,9.837 13.008,9.4 13.1,8.936 13.1,8.7 13.1,-8.7 13.1,-8.936 13.008,-9.4 12.827,-9.837 12.564,-10.23 12.23,-10.564 11.837,-10.827 11.4,-11.008 10.936,-11.1 10.7,-11.1 0.25,-11.1 0.25,-9.6 10.7,-9.6 10.788,-9.596 10.961,-9.561 11.124,-9.494 11.271,-9.396 11.396,-9.271 11.494,-9.124 11.561,-8.961 11.596,-8.788
  region: -11.6,-8.7 -11.6,8.7 -11.596,8.788 -11.561,8.961 -11.494,9.124 -11.396,9.271 -11.271,9.396 -11.124,9.494 -10.961,9.561 -10.788,9.596 -10.7,9.6 1,9.6 1,11.1 -10.7,11.1 -10.936,11.1 -11.4,11.008 -11.837,10.827 -12.23,10.564 -12.564,10.23 -12.827,9.837 -13.008,9.4 -13.1,8.936 -13.1,8.7 -13.1,-8.7 -13.1,-8.936 -13.008,-9.4 -12.827,-9.837 -12.564,-10.23 -12.23,-10.564 -11.837,-10.827 -11.4,-11.008 -10.936,-11.1 -10.7,-11.1 1,-11.1 1,-9.6 -10.7,-9.6 -10.788,-9.596 -10.961,-9.561 -11.124,-9.494 -11.271,-9.396 -11.396,-9.271 -11.494,-9.124 -11.561,-8.961 -11.596,-8.788
Top Paste:
  region: -11.6,-8.7 -11.6,8.7 -11.596,8.788 -11.561,8.961 -11.494,9.124 -11.396,9.271 -11.271,9.396 -11.124,9.494 -10.961,9.561 -10.788,9.596 -10.7,9.6 -0.25,9.6 -0.25,11.1 -10.7,11.1 -10.936,11.1 -11.4,11.008 -11.837,10.827 -12.23,10.564 -12.564,10.23 -12.827,9.837 -13.008,9.4 -13.1,8.936 -13.1,8.7 -13.1,-8.7 -13.1,-8.936 -13.008,-9.4 -12.827,-9.837 -12.564,-10.23 -12.23,-10.564 -11.837,-10.827 -11.4,-11.008 -10.936,-11.1 -10.7,-11.1 -0.25,-11.1 -0.25,-9.6 -10.7,-9.6 -10.788,-9.596 -10.961,-9.561 -11.124,-9.494 -11.271,-9.396 -11.396,-9.271 -11.494,-9.124 -11.561,-8.961 -11.596,-8.788
  region: 11.6,-8.7 11.6,8.7 11.596,8.788 11.561,8.961 11.494,9.124 11.396,9.271 11.271,9.396 11.124,9.494 10.961,9.561 10.788,9.596 10.7,9.6 0.25,9.6 0.25,11.1 10.7,11.1 10.936,11.1 11.4,11.008 11.837,10.827 12.23,10.564 12.564,10.23 12.827,9.837 13.008,9.4 13.1,8.936 13.1,8.7 13.1,-8.7 13.1,-8.936 13.008,-9.4 12.827,-9.837 12.564,-10.23 12.23,-10.564 11.837,-10.827 11.4,-11.008 10.936,-11.1 10.7,-11.1 0.25,-11.1 0.25,-9.6 10.7,-9.6 10.788,-9.596 10.961,-9.561 11.124,-9.494 11.271,-9.396 11.396,-9.271 11.494,-9.124 11.561,-8.961 11.596,-8.788
Assembly Notes:
  text "recommended tin paste thickness=0.5mm / customer to define the final stencil gap" at -5.05,-12.75 h0.4
Top Component Outline:
  lines w0.1: -12.5,-8.75 ccw(c-10.75,-8.75) -10.75,-10.5 10.75,-10.5 ccw(c10.75,-8.75) 12.5,-8.75 12.5,8.75 ccw(c10.75,8.75) 10.75,10.5 -10.75,10.5 ccw(c-10.75,8.75) -12.5,8.75 -12.5,-8.75
Top 3D Body:
  lines w0.1: -12.5,-8.75 ccw(c-10.75,-8.75) -10.75,-10.5 10.75,-10.5 ccw(c10.75,-8.75) 12.5,-8.75 12.5,8.75 ccw(c10.75,8.75) 10.75,10.5 -10.75,10.5 ccw(c-10.75,8.75) -12.5,8.75 -12.5,-8.75
Top Courtyard:
  lines w0.05: -13.3,-11.3 13.3,-11.3 13.3,11.3 -13.3,11.3 -13.3,-11.3
Top Component Center:
  lines w0.05: -0.5,0 0.5,0 ; 0,-0.5 0,0.5
Top Designator (Mech19):
  text ".Designator" at -7.498,-0.5 h1.5
3D body "3670250.stp": height 4, standoff -1, extent -12.5,-10.5 12.5,10.5

## 3670256 [mm] "Shielding Cabinet, SMT Frame Seamless, 25.6x15.5x2.3mm"
height 2.3
pads (4):
  rect 1x12 smd paste-2539.97 mask-2222: 1(-12.7,0) 1(12.7,0)
  rect 20x1 smd paste-2539.97 mask-2222: 1(0,-7.65) 1(0,7.65)
Top Layer:
  region: -13.45,-1 -13.45,6.05 -13.45,6.281 -13.36,6.735 -13.183,7.163 -12.925,7.548 -12.598,7.875 -12.213,8.133 -11.785,8.31 -11.331,8.4 -11.1,8.4 11.1,8.4 11.331,8.4 11.785,8.31 12.213,8.133 12.598,7.875 12.925,7.548 13.183,7.163 13.36,6.735 13.45,6.281 13.45,6.05 13.45,-1 11.95,-1 11.95,6.05 11.946,6.133 11.913,6.297 11.85,6.451 11.757,6.589 11.639,6.707 11.501,6.8 11.347,6.863 11.183,6.896 11.1,6.9 -11.1,6.9 -11.183,6.896 -11.347,6.863 -11.501,6.8 -11.639,6.707 -11.757,6.589 -11.85,6.451 -11.913,6.297 -11.946,6.133 -11.95,6.05 -11.95,-1
  region: -13.45,-0.25 -13.45,-6.05 -13.45,-6.281 -13.36,-6.735 -13.183,-7.163 -12.925,-7.548 -12.598,-7.875 -12.213,-8.133 -11.785,-8.31 -11.331,-8.4 -11.1,-8.4 11.1,-8.4 11.331,-8.4 11.785,-8.31 12.213,-8.133 12.598,-7.875 12.925,-7.548 13.183,-7.163 13.36,-6.735 13.45,-6.281 13.45,-6.05 13.45,-0.25 11.95,-0.25 11.95,-6.05 11.946,-6.133 11.913,-6.297 11.85,-6.451 11.757,-6.589 11.639,-6.707 11.501,-6.8 11.347,-6.863 11.183,-6.896 11.1,-6.9 -11.1,-6.9 -11.183,-6.896 -11.347,-6.863 -11.501,-6.8 -11.639,-6.707 -11.757,-6.589 -11.85,-6.451 -11.913,-6.297 -11.946,-6.133 -11.95,-6.05 -11.95,-0.25
Top Paste:
  region: -13.45,-0.25 -13.45,-6.05 -13.45,-6.281 -13.36,-6.735 -13.183,-7.163 -12.925,-7.548 -12.598,-7.875 -12.213,-8.133 -11.785,-8.31 -11.331,-8.4 -11.1,-8.4 11.1,-8.4 11.331,-8.4 11.785,-8.31 12.213,-8.133 12.598,-7.875 12.925,-7.548 13.183,-7.163 13.36,-6.735 13.45,-6.281 13.45,-6.05 13.45,-0.25 11.95,-0.25 11.95,-6.05 11.946,-6.133 11.913,-6.297 11.85,-6.451 11.757,-6.589 11.639,-6.707 11.501,-6.8 11.347,-6.863 11.183,-6.896 11.1,-6.9 -11.1,-6.9 -11.183,-6.896 -11.347,-6.863 -11.501,-6.8 -11.639,-6.707 -11.757,-6.589 -11.85,-6.451 -11.913,-6.297 -11.946,-6.133 -11.95,-6.05 -11.95,-0.25
  region: -13.45,0.25 -13.45,6.05 -13.45,6.281 -13.36,6.735 -13.183,7.163 -12.925,7.548 -12.598,7.875 -12.213,8.133 -11.785,8.31 -11.331,8.4 -11.1,8.4 11.1,8.4 11.331,8.4 11.785,8.31 12.213,8.133 12.598,7.875 12.925,7.548 13.183,7.163 13.36,6.735 13.45,6.281 13.45,6.05 13.45,0.25 11.95,0.25 11.95,6.05 11.946,6.133 11.913,6.297 11.85,6.451 11.757,6.589 11.639,6.707 11.501,6.8 11.347,6.863 11.183,6.896 11.1,6.9 -11.1,6.9 -11.183,6.896 -11.347,6.863 -11.501,6.8 -11.639,6.707 -11.757,6.589 -11.85,6.451 -11.913,6.297 -11.946,6.133 -11.95,6.05 -11.95,0.25
Assembly Notes:
  text "recommended tin paste thickness=0.5mm / customer to define the final stencil gap" at -5.45,-10.1 h0.4
Top Component Outline:
  lines w0.1: -12.8,-6 ccw(c-11.05,-6) -11.05,-7.75 11.05,-7.75 ccw(c11.05,-6) 12.8,-6 12.8,6 ccw(c11.05,6) 11.05,7.75 -11.05,7.75 ccw(c-11.05,6) -12.8,6 -12.8,-6
Top 3D Body:
  lines w0.1: -12.8,-6 ccw(c-11.05,-6) -11.05,-7.75 11.05,-7.75 ccw(c11.05,-6) 12.8,-6 12.8,6 ccw(c11.05,6) 11.05,7.75 -11.05,7.75 ccw(c-11.05,6) -12.8,6 -12.8,-6
Top Courtyard:
  lines w0.05: -13.65,-8.6 13.65,-8.6 13.65,8.6 -13.65,8.6 -13.65,-8.6
Top Component Center:
  lines w0.05: -0.5,0 0.5,0 ; 0,-0.5 0,0.5
Top Designator (Mech19):
  text ".Designator" at -7.498,-0.5 h1.5
3D body "3670256.stp": height 2.3, standoff 0, extent -12.8,-7.75 12.8,7.75

## 3670257 [mm] "Shielding Cabinet, SMT Frame Seamless, 25.7x25.7x6.5mm"
height 6.5
pads (6):
  rect 1x20 smd paste-2539.97 mask-2222: 1(-12.7,0) 1(12.7,0)
  oval 2.5x1.3 hole 0.8 slot 1.8 at 0 deg: 1(-6.35,-12.7) 2(6.35,12.7)
  rect 20x1 smd paste-2539.97 mask-2222: 1(0,-12.7) 1(0,12.7)
Top Layer:
  region: -13.45,-0.25 -13.45,-9.85 -13.45,-10.086 -13.388,-10.554 -13.266,-11.01 -13.086,-11.446 -12.85,-11.854 -12.562,-12.229 -12.229,-12.562 -11.854,-12.85 -11.446,-13.086 -11.01,-13.266 -10.554,-13.388 -10.086,-13.45 -9.85,-13.45 9.85,-13.45 10.086,-13.45 10.554,-13.388 11.01,-13.266 11.446,-13.086 11.854,-12.85 12.229,-12.562 12.562,-12.229 12.85,-11.854 13.086,-11.446 13.266,-11.01 13.388,-10.554 13.45,-10.086 13.45,-9.85 13.45,-0.25 11.95,-0.25 11.95,-9.85 11.94,-10.056 11.86,-10.46 11.702,-10.84 11.473,-11.182 11.182,-11.473 10.84,-11.702 10.46,-11.86 10.056,-11.94 9.85,-11.95 -9.85,-11.95 -10.056,-11.94 -10.46,-11.86 -10.84,-11.702 -11.182,-11.473 -11.473,-11.182 -11.702,-10.84 -11.86,-10.46 -11.94,-10.056 -11.95,-9.85 -11.95,-0.25
  region: -13.45,-1 -13.45,9.85 -13.45,10.086 -13.388,10.554 -13.266,11.01 -13.086,11.446 -12.85,11.854 -12.562,12.229 -12.229,12.562 -11.854,12.85 -11.446,13.086 -11.01,13.266 -10.554,13.388 -10.086,13.45 -9.85,13.45 9.85,13.45 10.086,13.45 10.554,13.388 11.01,13.266 11.446,13.086 11.854,12.85 12.229,12.562 12.562,12.229 12.85,11.854 13.086,11.446 13.266,11.01 13.388,10.554 13.45,10.086 13.45,9.85 13.45,-1 11.95,-1 11.95,9.85 11.94,10.056 11.86,10.46 11.702,10.84 11.473,11.182 11.182,11.473 10.84,11.702 10.46,11.86 10.056,11.94 9.85,11.95 -9.85,11.95 -10.056,11.94 -10.46,11.86 -10.84,11.702 -11.182,11.473 -11.473,11.182 -11.702,10.84 -11.86,10.46 -11.94,10.056 -11.95,9.85 -11.95,-1
Top Paste:
  region: -13.45,0.25 -13.45,9.85 -13.45,10.086 -13.388,10.554 -13.266,11.01 -13.086,11.446 -12.85,11.854 -12.562,12.229 -12.229,12.562 -11.854,12.85 -11.446,13.086 -11.01,13.266 -10.554,13.388 -10.086,13.45 -9.85,13.45 9.85,13.45 10.086,13.45 10.554,13.388 11.01,13.266 11.446,13.086 11.854,12.85 12.229,12.562 12.562,12.229 12.85,11.854 13.086,11.446 13.266,11.01 13.388,10.554 13.45,10.086 13.45,9.85 13.45,0.25 11.95,0.25 11.95,9.85 11.94,10.056 11.86,10.46 11.702,10.84 11.473,11.182 11.182,11.473 10.84,11.702 10.46,11.86 10.056,11.94 9.85,11.95 -9.85,11.95 -10.056,11.94 -10.46,11.86 -10.84,11.702 -11.182,11.473 -11.473,11.182 -11.702,10.84 -11.86,10.46 -11.94,10.056 -11.95,9.85 -11.95,0.25
  region: -13.45,-0.25 -13.45,-9.85 -13.45,-10.086 -13.388,-10.554 -13.266,-11.01 -13.086,-11.446 -12.85,-11.854 -12.562,-12.229 -12.229,-12.562 -11.854,-12.85 -11.446,-13.086 -11.01,-13.266 -10.554,-13.388 -10.086,-13.45 -9.85,-13.45 9.85,-13.45 10.086,-13.45 10.554,-13.388 11.01,-13.266 11.446,-13.086 11.854,-12.85 12.229,-12.562 12.562,-12.229 12.85,-11.854 13.086,-11.446 13.266,-11.01 13.388,-10.554 13.45,-10.086 13.45,-9.85 13.45,-0.25 11.95,-0.25 11.95,-9.85 11.94,-10.056 11.86,-10.46 11.702,-10.84 11.473,-11.182 11.182,-11.473 10.84,-11.702 10.46,-11.86 10.056,-11.94 9.85,-11.95 -9.85,-11.95 -10.056,-11.94 -10.46,-11.86 -10.84,-11.702 -11.182,-11.473 -11.473,-11.182 -11.702,-10.84 -11.86,-10.46 -11.94,-10.056 -11.95,-9.85 -11.95,-0.25
Assembly Notes:
  text "recommended tin paste thickness=0.5mm / customer to define the final stencil gap" at -5.4,-15.1 h0.4
Top Component Outline:
  lines w0.1: -12.85,-9.85 ccw(c-9.85,-9.85) -9.85,-12.85 9.85,-12.85 ccw(c9.85,-9.85) 12.85,-9.85 12.85,9.85 ccw(c9.85,9.85) 9.85,12.85 -9.85,12.85 ccw(c-9.85,9.85) -12.85,9.85 -12.85,-9.85
Top 3D Body:
  lines w0.1: -12.85,-9.85 ccw(c-9.85,-9.85) -9.85,-12.85 9.85,-12.85 ccw(c9.85,-9.85) 12.85,-9.85 12.85,9.85 ccw(c9.85,9.85) 9.85,12.85 -9.85,12.85 ccw(c-9.85,9.85) -12.85,9.85 -12.85,-9.85
Top Courtyard:
  lines w0.05: -13.65,-13.65 -13.65,13.65 13.65,13.65 13.65,-13.65 -13.65,-13.65
Top Component Center:
  lines w0.05: -0.5,0 0.5,0 ; 0,-0.5 0,0.5
Top Designator (Mech19):
  text ".Designator" at -7.498,-0.5 h1.5
3D body "3670257.stp": height 6.5, standoff -0.6, extent -12.85,-12.85 12.85,12.85

## 3670259 [mm] "Shielding Cabinet, SMT Frame Seamless, 25.9x25.9x3mm"
height 3
pads (4):
  rect 1x20 smd paste-2539.97 mask-2222: 1(-12.8,0) 1(12.8,0)
  rect 20x1 smd paste-2539.97 mask-2222: 1(0,-12.8) 1(0,12.8)
Top Layer:
  region: -13.55,-1 -13.55,10.95 -13.55,11.206 -13.45,11.708 -13.254,12.182 -12.97,12.607 -12.607,12.97 -12.182,13.254 -11.708,13.45 -11.206,13.55 -10.95,13.55 10.95,13.55 11.206,13.55 11.708,13.45 12.182,13.254 12.607,12.97 12.97,12.607 13.254,12.182 13.45,11.708 13.55,11.206 13.55,10.95 13.55,-1 12.05,-1 12.05,10.75 12.044,10.877 11.994,11.127 11.896,11.363 11.755,11.575 11.575,11.755 11.363,11.896 11.127,11.994 10.877,12.044 10.75,12.05 -10.75,12.05 -10.877,12.044 -11.127,11.994 -11.363,11.896 -11.575,11.755 -11.755,11.575 -11.896,11.363 -11.994,11.127 -12.044,10.877 -12.05,10.75 -12.05,-1
  region: -13.55,-0.25 -13.55,-10.95 -13.55,-11.206 -13.45,-11.708 -13.254,-12.182 -12.97,-12.607 -12.607,-12.97 -12.182,-13.254 -11.708,-13.45 -11.206,-13.55 -10.95,-13.55 10.95,-13.55 11.206,-13.55 11.708,-13.45 12.182,-13.254 12.607,-12.97 12.97,-12.607 13.254,-12.182 13.45,-11.708 13.55,-11.206 13.55,-10.95 13.55,-0.25 12.05,-0.25 12.05,-10.75 12.044,-10.877 11.994,-11.127 11.896,-11.363 11.755,-11.575 11.575,-11.755 11.363,-11.896 11.127,-11.994 10.877,-12.044 10.75,-12.05 -10.75,-12.05 -10.877,-12.044 -11.127,-11.994 -11.363,-11.896 -11.575,-11.755 -11.755,-11.575 -11.896,-11.363 -11.994,-11.127 -12.044,-10.877 -12.05,-10.75 -12.05,-0.25
Top Paste:
  region: -13.55,-0.25 -13.55,-10.95 -13.55,-11.206 -13.45,-11.708 -13.254,-12.182 -12.97,-12.607 -12.607,-12.97 -12.182,-13.254 -11.708,-13.45 -11.206,-13.55 -10.95,-13.55 10.95,-13.55 11.206,-13.55 11.708,-13.45 12.182,-13.254 12.607,-12.97 12.97,-12.607 13.254,-12.182 13.45,-11.708 13.55,-11.206 13.55,-10.95 13.55,-0.25 12.05,-0.25 12.05,-10.75 12.044,-10.877 11.994,-11.127 11.896,-11.363 11.755,-11.575 11.575,-11.755 11.363,-11.896 11.127,-11.994 10.877,-12.044 10.75,-12.05 -10.75,-12.05 -10.877,-12.044 -11.127,-11.994 -11.363,-11.896 -11.575,-11.755 -11.755,-11.575 -11.896,-11.363 -11.994,-11.127 -12.044,-10.877 -12.05,-10.75 -12.05,-0.25
  region: -13.55,0.25 -13.55,10.95 -13.55,11.206 -13.45,11.708 -13.254,12.182 -12.97,12.607 -12.607,12.97 -12.182,13.254 -11.708,13.45 -11.206,13.55 -10.95,13.55 10.95,13.55 11.206,13.55 11.708,13.45 12.182,13.254 12.607,12.97 12.97,12.607 13.254,12.182 13.45,11.708 13.55,11.206 13.55,10.95 13.55,0.25 12.05,0.25 12.05,10.75 12.044,10.877 11.994,11.127 11.896,11.363 11.755,11.575 11.575,11.755 11.363,11.896 11.127,11.994 10.877,12.044 10.75,12.05 -10.75,12.05 -10.877,12.044 -11.127,11.994 -11.363,11.896 -11.575,11.755 -11.755,11.575 -11.896,11.363 -11.994,11.127 -12.044,10.877 -12.05,10.75 -12.05,0.25
Assembly Notes:
  text "recommended tin paste thickness=0.5mm / customer to define the final stencil gap" at -5.4,-15.15 h0.4
Top Component Outline:
  lines w0.1: -12.95,-10.95 ccw(c-10.95,-10.95) -10.95,-12.95 10.95,-12.95 ccw(c10.95,-10.95) 12.95,-10.95 12.95,10.95 ccw(c10.95,10.95) 10.95,12.95 -10.95,12.95 ccw(c-10.95,10.95) -12.95,10.95 -12.95,-10.95
Top 3D Body:
  lines w0.1: -12.95,-10.95 ccw(c-10.95,-10.95) -10.95,-12.95 10.95,-12.95 ccw(c10.95,-10.95) 12.95,-10.95 12.95,10.95 ccw(c10.95,10.95) 10.95,12.95 -10.95,12.95 ccw(c-10.95,10.95) -12.95,10.95 -12.95,-10.95
Top Courtyard:
  lines w0.05: -13.75,-13.75 -13.75,13.75 13.75,13.75 13.75,-13.75 -13.75,-13.75
Top Component Center:
  lines w0.05: -0.5,0 0.5,0 ; 0,-0.5 0,0.5
Top Designator (Mech19):
  text ".Designator" at -7.498,-0.5 h1.5
3D body "3670259.stp": height 3, standoff 0, extent -12.95,-12.95 12.95,12.95

## 3670260 [mm] "Shielding Cabinet, SMT Frame Seamless, 26x23x7.8mm"
height 7.8
pads (4):
  rect 1x18 smd paste-2539.97 mask-2222: 1(-12.85,0) 1(12.85,0)
  rect 18x1 smd paste-2539.97 mask-2222: 1(0,-11.35) 1(0,11.35)
Top Layer:
  region: -13.6,-1 -13.6,9.5 -13.6,9.756 -13.5,10.258 -13.304,10.732 -13.02,11.157 -12.657,11.52 -12.232,11.804 -11.758,12 -11.256,12.1 -11,12.1 11,12.1 11.256,12.1 11.758,12 12.232,11.804 12.657,11.52 13.02,11.157 13.304,10.732 13.5,10.258 13.6,9.756 13.6,9.5 13.6,-1 12.1,-1 12.1,9.3 12.094,9.427 12.044,9.677 11.946,9.913 11.805,10.125 11.625,10.305 11.413,10.446 11.177,10.544 10.927,10.594 10.8,10.6 -10.8,10.6 -10.927,10.594 -11.177,10.544 -11.413,10.446 -11.625,10.305 -11.805,10.125 -11.946,9.913 -12.044,9.677 -12.094,9.427 -12.1,9.3 -12.1,-1
  region: -13.6,-0.25 -13.6,-9.5 -13.6,-9.756 -13.5,-10.258 -13.304,-10.732 -13.02,-11.157 -12.657,-11.52 -12.232,-11.804 -11.758,-12 -11.256,-12.1 -11,-12.1 11,-12.1 11.256,-12.1 11.758,-12 12.232,-11.804 12.657,-11.52 13.02,-11.157 13.304,-10.732 13.5,-10.258 13.6,-9.756 13.6,-9.5 13.6,-0.25 12.1,-0.25 12.1,-9.3 12.094,-9.427 12.044,-9.677 11.946,-9.913 11.805,-10.125 11.625,-10.305 11.413,-10.446 11.177,-10.544 10.927,-10.594 10.8,-10.6 -10.8,-10.6 -10.927,-10.594 -11.177,-10.544 -11.413,-10.446 -11.625,-10.305 -11.805,-10.125 -11.946,-9.913 -12.044,-9.677 -12.094,-9.427 -12.1,-9.3 -12.1,-0.25
Top Paste:
  region: -13.6,-0.25 -13.6,-9.5 -13.6,-9.756 -13.5,-10.258 -13.304,-10.732 -13.02,-11.157 -12.657,-11.52 -12.232,-11.804 -11.758,-12 -11.256,-12.1 -11,-12.1 11,-12.1 11.256,-12.1 11.758,-12 12.232,-11.804 12.657,-11.52 13.02,-11.157 13.304,-10.732 13.5,-10.258 13.6,-9.756 13.6,-9.5 13.6,-0.25 12.1,-0.25 12.1,-9.3 12.094,-9.427 12.044,-9.677 11.946,-9.913 11.805,-10.125 11.625,-10.305 11.413,-10.446 11.177,-10.544 10.927,-10.594 10.8,-10.6 -10.8,-10.6 -10.927,-10.594 -11.177,-10.544 -11.413,-10.446 -11.625,-10.305 -11.805,-10.125 -11.946,-9.913 -12.044,-9.677 -12.094,-9.427 -12.1,-9.3 -12.1,-0.25
  region: -13.6,0.25 -13.6,9.5 -13.6,9.756 -13.5,10.258 -13.304,10.732 -13.02,11.157 -12.657,11.52 -12.232,11.804 -11.758,12 -11.256,12.1 -11,12.1 11,12.1 11.256,12.1 11.758,12 12.232,11.804 12.657,11.52 13.02,11.157 13.304,10.732 13.5,10.258 13.6,9.756 13.6,9.5 13.6,0.25 12.1,0.25 12.1,9.3 12.094,9.427 12.044,9.677 11.946,9.913 11.805,10.125 11.625,10.305 11.413,10.446 11.177,10.544 10.927,10.594 10.8,10.6 -10.8,10.6 -10.927,10.594 -11.177,10.544 -11.413,10.446 -11.625,10.305 -11.805,10.125 -11.946,9.913 -12.044,9.677 -12.094,9.427 -12.1,9.3 -12.1,0.25
Assembly Notes:
  text "recommended tin paste thickness=0.5mm / customer to define the final stencil gap" at -5.9,-13.75 h0.4
Top Component Outline:
  lines w0.1: -13,-9.75 ccw(c-11.25,-9.75) -11.25,-11.5 11.25,-11.5 ccw(c11.25,-9.75) 13,-9.75 13,9.75 ccw(c11.25,9.75) 11.25,11.5 -11.25,11.5 ccw(c-11.25,9.75) -13,9.75 -13,-9.75
Top 3D Body:
  lines w0.1: -13,-9.75 ccw(c-11.25,-9.75) -11.25,-11.5 11.25,-11.5 ccw(c11.25,-9.75) 13,-9.75 13,9.75 ccw(c11.25,9.75) 11.25,11.5 -11.25,11.5 ccw(c-11.25,9.75) -13,9.75 -13,-9.75
Top Courtyard:
  lines w0.05: -13.8,-12.3 -13.8,12.3 13.8,12.3 13.8,-12.3 -13.8,-12.3
Top Component Center:
  lines w0.05: -0.5,0 0.5,0 ; 0,-0.5 0,0.5
Top Designator (Mech19):
  text ".Designator" at -7.498,-0.5 h1.5
3D body "3670260.stp": height 7.8, standoff 0, extent -13,-11.5 13,11.5

## 3670263 [mm] "Shielding Cabinet, SMT Frame Seamless, 26.3x16.8x4.5mm"
height 4.5
pads (6):
  rect 1x14 smd paste-2539.97 mask-2222: 1(-13,0) 1(13,0)
  oval 2.1x1.5 hole 0.8 slot 1.4 at 0 deg: 1(-9.75,-8.25) 1(9.75,8.25)
  rect 18x1 smd paste-2539.97 mask-2222: 1(0,-8.25) 1(0,8.25)
Top Layer:
  region: -13.75,-0.25 -13.75,-6.5 -13.75,-6.746 -13.654,-7.229 -13.465,-7.684 -13.192,-8.094 -12.844,-8.442 -12.434,-8.715 -11.979,-8.904 -11.496,-9 -11.25,-9 11.25,-9 11.496,-9 11.979,-8.904 12.434,-8.715 12.844,-8.442 13.192,-8.094 13.465,-7.684 13.654,-7.229 13.75,-6.746 13.75,-6.5 13.75,-0.25 12.25,-0.25 12.25,-6.5 12.245,-6.598 12.207,-6.79 12.132,-6.971 12.023,-7.134 11.884,-7.273 11.721,-7.382 11.54,-7.457 11.348,-7.495 11.25,-7.5 -11.25,-7.5 -11.348,-7.495 -11.54,-7.457 -11.721,-7.382 -11.884,-7.273 -12.023,-7.134 -12.132,-6.971 -12.207,-6.79 -12.245,-6.598 -12.25,-6.5 -12.25,-0.25
  region: -13.75,-1 -13.75,6.5 -13.75,6.746 -13.654,7.229 -13.465,7.684 -13.192,8.094 -12.844,8.442 -12.434,8.715 -11.979,8.904 -11.496,9 -11.25,9 11.25,9 11.496,9 11.979,8.904 12.434,8.715 12.844,8.442 13.192,8.094 13.465,7.684 13.654,7.229 13.75,6.746 13.75,6.5 13.75,-1 12.25,-1 12.25,6.5 12.245,6.598 12.207,6.79 12.132,6.971 12.023,7.134 11.884,7.273 11.721,7.382 11.54,7.457 11.348,7.495 11.25,7.5 -11.25,7.5 -11.348,7.495 -11.54,7.457 -11.721,7.382 -11.884,7.273 -12.023,7.134 -12.132,6.971 -12.207,6.79 -12.245,6.598 -12.25,6.5 -12.25,-1
Top Paste:
  region: -13.75,0.25 -13.75,6.5 -13.75,6.746 -13.654,7.229 -13.465,7.684 -13.192,8.094 -12.844,8.442 -12.434,8.715 -11.979,8.904 -11.496,9 -11.25,9 11.25,9 11.496,9 11.979,8.904 12.434,8.715 12.844,8.442 13.192,8.094 13.465,7.684 13.654,7.229 13.75,6.746 13.75,6.5 13.75,0.25 12.25,0.25 12.25,6.5 12.245,6.598 12.207,6.79 12.132,6.971 12.023,7.134 11.884,7.273 11.721,7.382 11.54,7.457 11.348,7.495 11.25,7.5 -11.25,7.5 -11.348,7.495 -11.54,7.457 -11.721,7.382 -11.884,7.273 -12.023,7.134 -12.132,6.971 -12.207,6.79 -12.245,6.598 -12.25,6.5 -12.25,0.25
  region: -13.75,-0.25 -13.75,-6.5 -13.75,-6.746 -13.654,-7.229 -13.465,-7.684 -13.192,-8.094 -12.844,-8.442 -12.434,-8.715 -11.979,-8.904 -11.496,-9 -11.25,-9 11.25,-9 11.496,-9 11.979,-8.904 12.434,-8.715 12.844,-8.442 13.192,-8.094 13.465,-7.684 13.654,-7.229 13.75,-6.746 13.75,-6.5 13.75,-0.25 12.25,-0.25 12.25,-6.5 12.245,-6.598 12.207,-6.79 12.132,-6.971 12.023,-7.134 11.884,-7.273 11.721,-7.382 11.54,-7.457 11.348,-7.495 11.25,-7.5 -11.25,-7.5 -11.348,-7.495 -11.54,-7.457 -11.721,-7.382 -11.884,-7.273 -12.023,-7.134 -12.132,-6.971 -12.207,-6.79 -12.245,-6.598 -12.25,-6.5 -12.25,-0.25
Assembly Notes:
  text "recommended tin paste thickness=0.5mm / customer to define the final stencil gap" at -4.9,-10.65 h0.4
Top Component Outline:
  lines w0.1: -13.15,-6.5 ccw(c-11.25,-6.5) -11.25,-8.4 11.25,-8.4 ccw(c11.25,-6.5) 13.15,-6.5 13.15,6.5 ccw(c11.25,6.5) 11.25,8.4 -11.25,8.4 ccw(c-11.25,6.5) -13.15,6.5 -13.15,-6.5
Top 3D Body:
  lines w0.1: -13.15,-6.5 ccw(c-11.25,-6.5) -11.25,-8.4 11.25,-8.4 ccw(c11.25,-6.5) 13.15,-6.5 13.15,6.5 ccw(c11.25,6.5) 11.25,8.4 -11.25,8.4 ccw(c-11.25,6.5) -13.15,6.5 -13.15,-6.5
Top Courtyard:
  lines w0.05: -13.95,-9.2 13.95,-9.2 13.95,9.2 -13.95,9.2 -13.95,-9.2
Top Component Center:
  lines w0.05: -0.5,0 0.5,0 ; 0,-0.5 0,0.5
Top Designator (Mech19):
  text ".Designator" at -7.498,-0.5 h1.5
3D body "3670263.stp": height 4.5, standoff -1.2, extent -13.15,-8.4 13.15,8.4